# Altium schematic symbol library LXB750VB_P1其他元件库.SCHLIB: 33 symbols
Pins are listed as number, name and electrical type; pins without a type are passive.

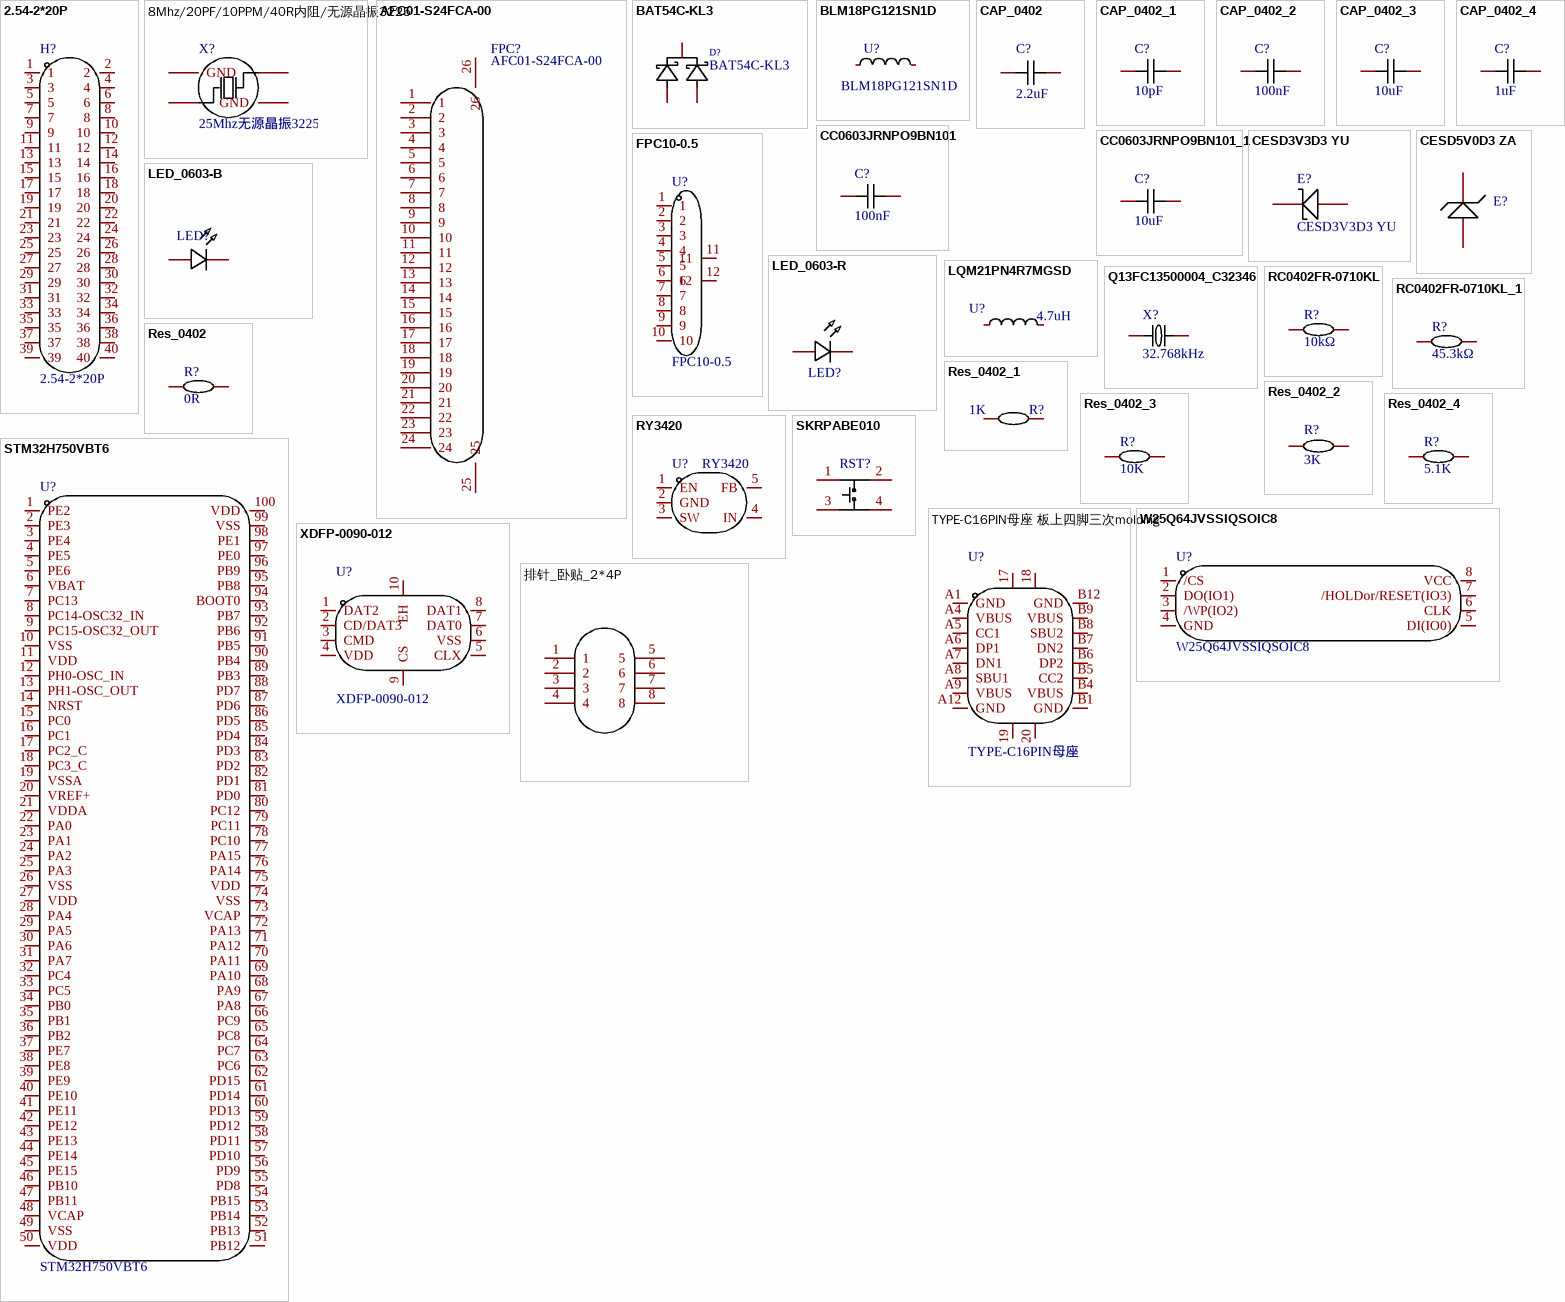
[diagram p0: symbols 2.54-2*20P to 排针_卧贴_2*4P]

## 2.54-2*20P
designator H?
Manufacturer: BOOMELE(博穆精密); Add into BOM: yes; Symbol: 2.54-2*20P; Device: 2.54-2*20P; Supplier: LCSC; Supplier Part: C5124634; Manufacturer Part: 2.54-2*20P; JLCPCB Part Class: 扩展库; Convert to PCB: yes; LCSC Part Name: 2.54-2*20P; Supplier Footprint: 插件,P=2.54mm; Datasheet: https://atta.szlcsc.com/upload/public/pdf/source/20221227/C943B6E3BC1E1384B123D6A43A7CD369.pdf; Name: 2.54-2*20P
footprint HDR-TH_40P-P2.54-V-F-R2-C20-S2.54-2
pins: 1, 2, 3, 4, 5, 6, 7, 8, 9, 10, 11, 12, 13, 14, 15, 16, 17, 18, 19, 20, 21, 22, 23, 24, 25, 26, 27, 28, 29, 30, 31, 32, 33, 34, 35, 36, 37, 38, 39, 40

## 8Mhz/20PF/10PPM/40R内阻/无源晶振3225
designator X?, comment 25Mhz无源晶振3225
Symbol: 8MHZ/20PF/10PPM/40R内阻/无源晶振3225; Add into BOM: yes; Device: 8Mhz/20PF/10PPM/40R内阻/无源晶振3225; LCSC Part Name: 8Mhz/20PF/10PPM/40R内阻/无源晶振3225; Supplier Part: C9900023313; Manufacturer Part: 25Mhz无源晶振3225; Supplier Footprint: CRYSTAL-SMD_4P-L3.2-W2.5; Supplier: LCSC; Convert to PCB: yes; Name: 25Mhz无源晶振3225
footprint CRYSTAL-SMD_4P-L3.2-W2.5-BL
3D model OSC-SMD_4P-L3.2-W2.5-H1.0
pins: 1 OSC1, 2 GND, 3 OSC2, 4 GND

## AFC01-S24FCA-00
designator FPC?
锁定特性:翻盖式;触点类型:下接;触点数量:24P;间距:0.5mm;安装类型:卧贴;; Manufacturer: JS(钜硕电子); Add into BOM: yes; Locking Feature: 翻盖式; Number of Contacts: 24P; Pitch: 0.5mm; FFC, FCB Thickness: 0.3mm; Name: AFC01-S24FCA-00; Symbol: AFC01-S24FCA-00; Device: AFC01-S24FCA-00; Supplier: LCSC; Supplier Part: C262669; Manufacturer Part: AFC01-S24FCA-00; JLCPCB Part Class: 扩展库; LCSC Part Name: 间距:0.5mm P数:24P 翻盖式 下接; Supplier Footprint: SMD,P=0.5mm,卧贴; Datasheet: https://atta.szlcsc.com/upload/public/pdf/source/20190816/C413942_2A72D1AC756EAE17EEDF756A339D4500.pdf; Convert to PCB: yes; Contact Type: 下接; Mounting Type: 卧贴; Height Above Board: 2mm
footprint FPC-SMD_P0.50-24P_FGS-XJ-H2.0
3D model FPC-SMD_P0.50-WS-24P
pins: 1, 2, 3, 4, 5, 6, 7, 8, 9, 10, 11, 12, 13, 14, 15, 16, 17, 18, 19, 20, 21, 22, 23, 24, 25, 26

## BAT54C-KL3
designator D?
二极管配置:1对共阴极;正向压降(Vf):1V@100mA;直流反向耐压(Vr):30V;平均整流电流(Io):200mA;; Manufacturer: ZRE(治润); Add into BOM: yes; Diode Configuration: 1对共阴极; Reverse Voltage (Vr): 30V; Average Rectified Current (Io): 200mA; Reverse Leakage Current (Ir): 2uA@25V; Symbol: BAT54C-KL3; Device: BAT54C-KL3; Supplier: LCSC; Supplier Part: C779698; Manufacturer Part: BAT54C-KL3; JLCPCB Part Class: 扩展库; LCSC Part Name: 电压:30V 电流:200mA; Supplier Footprint: SOT-23; Datasheet: https://atta.szlcsc.com/upload/public/pdf/source/20201013/C779697_FADF87324DB075BDE4E981624DEB8F45.pdf; Convert to PCB: yes; Forward Voltage (Vf@If): 1V@100mA; Name: BAT54C-KL3
footprint SOT-23-3_L2.9-W1.3-P1.90-LS2.4-BR
3D model SOT-23-3P_L2.9-W1.3-H1.0-LS2.4-P0.95
pins: 1 A, 2 A, 3 K

## BLM18PG121SN1D
designator U?
标称阻抗@测试频率:120Ω@100MHz;误差:±25%;直流电阻(RDC):50mΩ;; Manufacturer: muRata(村田); Symbol: BLM18PG121SN1D_C14709; Add into BOM: yes; Tolerance: ±25%; DC Resistance: 50mΩ; Current Rating: 2A; Circuits: 1; Device: BLM18PG121SN1D; LCSC Part Name: 单路 0603磁珠 阻抗120Ω@100MHz; Supplier Part: C14709; Manufacturer Part: BLM18PG121SN1D; Supplier Footprint: 0603; JLCPCB Part Class: 扩展库; Datasheet: https://atta.szlcsc.com/upload/public/pdf/source/20130704/1457706621422.pdf; Supplier: LCSC; Convert to PCB: yes; Impedance @ Frequency: 120Ω@100MHz; Name: BLM18PG121SN1D
footprint L0603
3D model L0603_L1.6-W0.8-H0.5_BEAD
pins: 1, 2

## CAP_0402
designator C?, comment 2.2uF
Symbol: CapAcitance; Device: CAP_0402; Convert to PCB: yes; Add into BOM: yes; Supplier Footprint: 0402; Value: 2.2uF; Name: 2.2uF
footprint R0402
3D model C0402_L1.0-W0.5-H0.5
pins: 1, 2

## CAP_0402_1
designator C?, comment 10pF
Symbol: CapAcitance; Device: CAP_0402; Convert to PCB: yes; Add into BOM: yes; Supplier Footprint: 0402; Value: 10pF; Name: 10pF
footprint R0402
3D model C0402_L1.0-W0.5-H0.5
pins: 1, 2

## CAP_0402_2
designator C?, comment 100nF
Symbol: CapAcitance; Device: CAP_0402; Convert to PCB: yes; Add into BOM: yes; Supplier Footprint: 0402; Value: 100nF; Name: 100nF
footprint R0402
3D model C0402_L1.0-W0.5-H0.5
pins: 1, 2

## CAP_0402_3
designator C?, comment 10uF
Symbol: CapAcitance; Device: CAP_0402; Convert to PCB: yes; Add into BOM: yes; Supplier Footprint: 0402; Value: 10uF; Name: 10uF
footprint R0402
3D model C0402_L1.0-W0.5-H0.5
pins: 1, 2

## CAP_0402_4
designator C?, comment 1uF
Symbol: CapAcitance; Device: CAP_0402; Convert to PCB: yes; Name: 1uF; Add into BOM: yes; Supplier Footprint: 0402; Value: 1uF
footprint R0402
3D model C0402_L1.0-W0.5-H0.5
pins: 1, 2

## CC0603JRNPO9BN101
designator C?, comment 100nF
容值:100pF;精度:±5%;额定电压:50V;材质(温度系数):NP0;; Manufacturer: YAGEO(国巨); Symbol: CC0603JRNPO9BN101; Add into BOM: yes; Tolerance: ±5%; Voltage Rated: 50V; Temperature Coefficient: NP0; Device: CC0603JRNPO9BN101; Supplier: LCSC; Manufacturer Part: CC0603JRNPO9BN101; Value: 100nF; Supplier Part: C14665; JLCPCB Part Class: 扩展库; LCSC Part Name: 100pF ±5% 50V; Supplier Footprint: 0603; Datasheet: https://atta.szlcsc.com/upload/public/pdf/source/20181008/C309499_21CC21451B82C39E3D92150FD6B30293.pdf; Convert to PCB: yes; Name: 100nF
footprint R0402
3D model C0603_L1.6-W0.8-H0.8
pins: 1, 2

## CC0603JRNPO9BN101_1
designator C?, comment 10uF
容值:100pF;精度:±5%;额定电压:50V;材质(温度系数):NP0;; Manufacturer: YAGEO(国巨); Symbol: CC0603JRNPO9BN101; Add into BOM: yes; Tolerance: ±5%; Voltage Rated: 50V; Temperature Coefficient: NP0; Name: 10uF; Device: CC0603JRNPO9BN101; Supplier: LCSC; Manufacturer Part: CC0603JRNPO9BN101; Value: 10uF; Supplier Part: C14665; JLCPCB Part Class: 扩展库; LCSC Part Name: 100pF ±5% 50V; Supplier Footprint: 0603; Datasheet: https://atta.szlcsc.com/upload/public/pdf/source/20181008/C309499_21CC21451B82C39E3D92150FD6B30293.pdf; Convert to PCB: yes
footprint R0402
3D model C0603_L1.6-W0.8-H0.8
pins: 1, 2

## CESD3V3D3 YU
designator E?
极性:单向;反向截止电压(Vrwm):3.3V;最大钳位电压:13V;峰值脉冲电流(Ipp)@10/1000us:16A;击穿电压:5V;; Manufacturer: CJ(江苏长电/长晶); Add into BOM: yes; polarity: 单向; Reverse Stand-Off Voltage (Vrwm): 3.3V; Maximum Clamping Voltage: 13V; Peak Pulse Current (Ipp)@10/1000us: 16A; Breakdown Voltage: 5V; Symbol: CESD3V3D3; Device: CESD3V3D3 YU; Supplier: LCSC; Manufacturer Part: CESD3V3D3 YU; Supplier Part: C38388; JLCPCB Part Class: 扩展库; LCSC Part Name: 单向ESD; Supplier Footprint: SOD-323; Datasheet: https://atta.szlcsc.com/upload/public/pdf/source/20150915/1457707371129.pdf; Convert to PCB: yes; Type: ESD; Name: CESD3V3D3 YU
footprint SOD-323_L1.8-W1.3-LS2.5-RD
3D model SOD-323_L1.7-W1.3-H1.1-LS2.5
pins: 1, 2

## CESD5V0D3 ZA
designator E?  (value not drawn)
极性:单向;反向截止电压(Vrwm):5V;最大钳位电压:15.5V;峰值脉冲电流(Ipp)@10/1000us:15A;击穿电压:6.2V;; Manufacturer: CJ(江苏长电/长晶); Add into BOM: yes; polarity: 单向; Reverse Stand-Off Voltage (Vrwm): 5V; Maximum Clamping Voltage: 15.5V; Peak Pulse Current (Ipp)@10/1000us: 15A; Breakdown Voltage: 6.2V; Name: CESD5V0D3 ZA; Symbol: CESD5V0D3 ZA; Device: CESD5V0D3 ZA; Supplier: LCSC; Manufacturer Part: CESD5V0D3 ZA; Supplier Part: C22643; JLCPCB Part Class: 扩展库; LCSC Part Name: 单向ESD; Supplier Footprint: SOD-323; Datasheet: https://atta.szlcsc.com/upload/public/pdf/source/20140301/1457707004115.pdf; Convert to PCB: yes; Type: ESD
footprint SOD-323_L1.8-W1.3-LS2.5-RD
3D model SOD-323_L1.7-W1.3-H1.1-LS2.5
pins: 1, 2

## FPC10-0.5
designator U?
Add into BOM: yes; Symbol: FPC10-0.5; Device: FPC10-0.5; LCSC Part Name: FPC10-0.5; Supplier Part: C9900025035; Manufacturer Part: FPC10-0.5; Supplier Footprint: FPC10-0.5; JLCPCB Part Class: 扩展库; Supplier: LCSC; Convert to PCB: yes; Name: FPC10-0.5
footprint FPC-SMD_P0.5-10P_FGS-XJ-H2.0
3D model FPC-SMD_P0.5-10P_FGS-XJ-H2.0
pins: 1, 2, 3, 4, 5, 6, 7, 8, 9, 10, 11, 12

## LED_0603-B
designator LED?  (value not drawn)
Symbol: LED_B; Convert to PCB: yes; Device: LED_0603-B; Add into BOM: yes; Supplier Footprint: 0603
footprint LED_0603
3D model LED-0603_B
pins: 1 C, 2 A

## LED_0603-R
designator LED?  (value not drawn)
Symbol: LED_R; Convert to PCB: yes; Device: LED_0603-R; Add into BOM: yes; Supplier Footprint: 0603
footprint LED_0603
3D model LED-0603_R
pins: 1 C, 2 A

## LQM21PN4R7MGSD
designator U?, comment 4.7uH
电感值:4.7uH;精度:±20%;额定电流:750mA;饱和电流(Isat):-;直流电阻(DCR):290mΩ;; Manufacturer: muRata(村田); Symbol: LQM21PN4R7MGSD; Add into BOM: yes; Tolerance: ±20%; Rated Current: 750mA; DC Resistance (DCR): 290mΩ; Frequency - Self Resonant: 20MHz; Device: LQM21PN4R7MGSD; Supplier: LCSC; Supplier Part: C703145; Manufacturer Part: LQM21PN4R7MGSD; Value: 4.7uH; JLCPCB Part Class: 扩展库; LCSC Part Name: 4.7uH ±20%; Supplier Footprint: 0805; Datasheet: https://atta.szlcsc.com/upload/public/pdf/source/20191022/C440248_094C93E028FCF0FA66FA57BC1ADCD3EF.pdf; Convert to PCB: yes; Saturation Current (Isat): -; Q @ Freq: -; Ratings: -; Type: 叠层电感; Name: 4.7uH
footprint L0805
3D model R0805_L2.0-W1.3-H0.6
pins: 1, 2

## Q13FC13500004_C32346
designator X?, comment 32.768kHz
晶振类型:贴片晶振;频率:32.768kHz;常温频差:±20ppm;外接负载电容:12.5pF;; Manufacturer: EPSON(爱普生); Manufacturer Part: Q13FC13500004; Symbol: Q13FC1350000400; Device: Q13FC13500004_C32346; Add into BOM: yes; Crystal Type: 贴片晶振; Normal temperature Frequency Tolerance: ±20ppm; External load capacitor: 12.5pF; Equivalent Series Resistance (ESR): 70kΩ; Name: 32.768kHz; LCSC Part Name: 32.768kHz ±20ppm 12.5pF; Supplier Part: C32346; Supplier Footprint: SMD3215-2P; JLCPCB Part Class: 基础库; Datasheet: https://atta.szlcsc.com/upload/public/pdf/source/20240418/0E0FF5F0356BA3753F616001439D1416.pdf; Supplier: LCSC; Convert to PCB: yes; Value: 32.768kHz; Operating Temperature: -40℃~+85℃
footprint FC-135R_L3.2-W1.5
3D model SMD-3215_2P_L3.2-W1.5-H0.8
pins: 1, 2

## RC0402FR-0710KL
designator R?, comment 10kΩ
电阻类型:厚膜电阻;阻值:10kΩ;精度:±1%;功率:62.5mW;最大工作电压:50V;温度系数:±100ppm/℃;; Manufacturer: YAGEO(国巨); Symbol: RC0402FR-0710KL; Add into BOM: yes; Tolerance: ±1%; Power(Watts): 62.5mW; Overload Voltage (Max): 50V; Name: 10kΩ; Device: RC0402FR-0710KL; LCSC Part Name: 厚膜电阻 10kΩ ±1% 62.5mW; Supplier Part: C60490; Manufacturer Part: RC0402FR-0710KL; Supplier Footprint: 0402; JLCPCB Part Class: 扩展库; Datasheet: https://atta.szlcsc.com/upload/public/pdf/source/20170925/C131467_1506321478108990263.pdf; Supplier: LCSC; Convert to PCB: yes; Type: 厚膜电阻; Value: 10kΩ; Temperature Coefficient: ±100ppm/℃; Operating Temperature Range: -55℃~+155℃
footprint R0402
3D model R0402_L1.0-W0.5-H0.5
pins: 1, 2

## RC0402FR-0710KL_1
designator R?, comment 45.3kΩ
电阻类型:厚膜电阻;阻值:10kΩ;精度:±1%;功率:62.5mW;最大工作电压:50V;温度系数:±100ppm/℃;; Manufacturer: YAGEO(国巨); Symbol: RC0402FR-0710KL; Add into BOM: yes; Tolerance: ±1%; Power(Watts): 62.5mW; Overload Voltage (Max): 50V; Name: 45.3kΩ; Device: RC0402FR-0710KL; LCSC Part Name: 厚膜电阻 10kΩ ±1% 62.5mW; Supplier Part: C60490; Manufacturer Part: RC0402FR-0710KL; Supplier Footprint: 0402; JLCPCB Part Class: 扩展库; Datasheet: https://atta.szlcsc.com/upload/public/pdf/source/20170925/C131467_1506321478108990263.pdf; Supplier: LCSC; Convert to PCB: yes; Type: 厚膜电阻; Value: 45.3kΩ; Temperature Coefficient: ±100ppm/℃; Operating Temperature Range: -55℃~+155℃
footprint R0402
3D model R0402_L1.0-W0.5-H0.5
pins: 1, 2

## Res_0402
designator R?, comment 0R
Symbol: 电阻; Device: Res_0402; Convert to PCB: yes; Add into BOM: yes; Supplier Footprint: 0402; Value: 0R; Name: 0R
footprint R0402
3D model R0402_L1.0-W0.5-H0.5
pins: 1, 2

## Res_0402_1
designator R?, comment 1K
Symbol: 电阻; Device: Res_0402; Convert to PCB: yes; Add into BOM: yes; Supplier Footprint: 0402; Value: 1K; Name: 1K
footprint R0402
3D model R0402_L1.0-W0.5-H0.5
pins: 1, 2

## Res_0402_2
designator R?, comment 3K
Symbol: 电阻; Device: Res_0402; Convert to PCB: yes; Add into BOM: yes; Supplier Footprint: 0402; Value: 3K; Name: 3K
footprint R0402
3D model R0402_L1.0-W0.5-H0.5
pins: 1, 2

## Res_0402_3
designator R?, comment 10K
Symbol: 电阻; Device: Res_0402; Convert to PCB: yes; Add into BOM: yes; Supplier Footprint: 0402; Value: 10K; Name: 10K
footprint R0402
3D model R0402_L1.0-W0.5-H0.5
pins: 1, 2

## Res_0402_4
designator R?, comment 5.1K
Symbol: 电阻; Device: Res_0402; Convert to PCB: yes; Add into BOM: yes; Supplier Footprint: 0402; Value: 5.1K; Name: 5.1K
footprint R0402
3D model R0402_L1.0-W0.5-H0.5
pins: 1, 2

## RY3420
designator U?
Manufacturer: RYCHiP(蕊源); Add into BOM: yes; Symbol: RY3420; Device: RY3420; LCSC Part Name: RY3420 Buck, 2.5-5.5V, 2A, 1.2MHz, VFB 0.6V, SOT23-5; Supplier Part: C370754; Manufacturer Part: RY3420; Supplier Footprint: SOT-23-5; JLCPCB Part Class: 扩展库; Datasheet: https://atta.szlcsc.com/upload/public/pdf/source/20190329/C370754_4D00FEBF6451586654F2657297312063.pdf; Supplier: LCSC; Convert to PCB: yes; Name: RY3420
footprint SOT-23-5_L2.9-W1.6-P0.95-LS2.8-BL
3D model SOT-23-5_L2.9-W1.6-P0.95-LS2.8-BL
pins: 1 EN, 2 GND, 3 SW, 4 IN, 5 FB

## SKRPABE010
designator RST?  (value not drawn)
触点电流:50mA;额定电压(DC):16V;电路结构:单刀单掷;安装方式:立贴;带灯:-;机械寿命:-;; Manufacturer: ALPSALPINE(阿尔卑斯阿尔派); Add into BOM: yes; Contact Current: 50mA; Voltage Rating (DC): 16V; Circuit: 单刀单掷; Actuator Style: 椭圆形按钮; Switch Length: 4.2mm; Switch Width: 3.2mm; Switch Height: 2.5mm; Name: SKRPABE010; Symbol: SKRPABE010; Device: SKRPABE010; LCSC Part Name: 4.2*3.2*2.5mm 立贴 轻触开关; Supplier Part: C115360; Manufacturer Part: SKRPABE010; Supplier Footprint: SMD; Datasheet: https://atta.szlcsc.com/upload/public/pdf/source/20230112/DF75D5D18E1B5268218CBB1743AEACBB.pdf; Supplier: LCSC; Convert to PCB: yes; Mounting Style: 立贴; With Lamp: -; Mechanical Life: -
footprint KEY-SMD_4P-L4.2-W3.2-P2.20-LS4.6
3D model KEY-SMD_4P-L4.2-W3.2-H2.5-LS4.6-P2.2
pins: 1, 2, 3, 4

## STM32H750VBT6
designator U?
CPU内核:ARM-M系列;程序存储容量:128KB;RAM总容量:1MB;GPIO端口数量:82;工作电压范围:1.62V~3.6V;CPU最大主频:480MHz;程序存储器类型:FLASH;; Manufacturer: ST(意法半导体); Add into BOM: yes; Program Storage Size: 128KB; RAM Size: 1MB; GPIO Ports Number: 82; CPU Maximum Speed: 480MHz; Program Memory Type: FLASH; ADC (Bit): 16bit; DAC (Bit): 12bit; Universal Serial Bus: 有; Peripheral/Function: DMA；LCD/LED驱动; Symbol: STM32H750VBT6; Device: STM32H750VBT6; LCSC Part Name: STM32H750VBT6; Supplier Part: C404010; Manufacturer Part: STM32H750VBT6; Supplier Footprint: LQFP-100(14x14); JLCPCB Part Class: 扩展库; Datasheet: https://atta.szlcsc.com/upload/public/pdf/source/20231008/912982D4F3BD3DF1AA7D0A7EE6EF5B6B.pdf; Supplier: LCSC; Convert to PCB: yes; CPU Core: ARM-M系列; Operating Voltage Range: 1.62V~3.6V; Operating Temperature Range: -40℃~+85℃; PWM (Bit): -; Internal Comparator: -; communication protocol: -; Watchdog: 有; Real-Time Clock: -; Infrared Data Association: 有; Low-Voltage Detect: 有; CCP Capture/Compare: -; LCD Module: 有; Secure Digital Input and Output: 有; Direct Memory Access: 有; Internal Oscillator: 有; Name: STM32H750VBT6
footprint LQFP-100_L14.0-W14.0-P0.50-LS16.0-BL
3D model LQFP-100_L14.0-W14.0-H1.4-LS16.0-P0.50
pins: 1 PE2, 2 PE3, 3 PE4, 4 PE5, 5 PE6, 6 VBAT, 7 PC13, 8 PC14-OSC32_IN, 9 PC15-OSC32_OUT, 10 VSS, 11 VDD, 12 PH0-OSC_IN, 13 PH1-OSC_OUT, 14 NRST, 15 PC0, 16 PC1, 17 PC2_C, 18 PC3_C, 19 VSSA, 20 VREF+, 21 VDDA, 22 PA0, 23 PA1, 24 PA2, 25 PA3, 26 VSS, 27 VDD, 28 PA4, 29 PA5, 30 PA6, 31 PA7, 32 PC4, 33 PC5, 34 PB0, 35 PB1, 36 PB2, 37 PE7, 38 PE8, 39 PE9, 40 PE10, 41 PE11, 42 PE12, 43 PE13, 44 PE14, 45 PE15, 46 PB10, 47 PB11, 48 VCAP, 49 VSS, 50 VDD, 51 PB12, 52 PB13, 53 PB14, 54 PB15, 55 PD8, 56 PD9, 57 PD10, 58 PD11, 59 PD12, 60 PD13, 61 PD14, 62 PD15, 63 PC6, 64 PC7, 65 PC8, 66 PC9, 67 PA8, 68 PA9, 69 PA10, 70 PA11, 71 PA12, 72 PA13, 73 VCAP, 74 VSS, 75 VDD, 76 PA14, 77 PA15, 78 PC10, 79 PC11, 80 PC12, 81 PD0, 82 PD1, 83 PD2, 84 PD3, 85 PD4, 86 PD5, 87 PD6, 88 PD7, 89 PB3, 90 PB4, 91 PB5, 92 PB6, 93 PB7, 94 BOOT0, 95 PB8, 96 PB9, 97 PE0, 98 PE1, 99 VSS, 100 VDD

## TYPE-C16PIN母座 板上四脚三次molding
designator U?, comment TYPE-C16PIN母座
Symbol: TYPE-C16PIN母座 板上四脚三次MOLDING; Add into BOM: yes; Name: TYPE-C16PIN母座; Device: TYPE-C16PIN母座 板上四脚三次molding; LCSC Part Name: TYPE-C16PIN母座 板上四脚三次molding; Supplier Part: C9900000202; Manufacturer Part: TYPE-C16PIN母座; Supplier Footprint: TYPE-C16PIN; JLCPCB Part Class: 扩展库; Supplier: LCSC; Convert to PCB: yes
footprint USB-SMD_TYPE-C16PIN
3D model USB-SMD_TYPE-C16PIN-1
pins: 17, 18, 19, 20, A1 GND, A4 VBUS, A5 CC1, A6 DP1, A7 DN1, A8 SBU1, A9 VBUS, A12 GND, B1 GND, B4 VBUS, B5 CC2, B6 DP2, B7 DN2, B8 SBU2, B9 VBUS, B12 GND

## W25Q64JVSSIQSOIC8
designator U?
Add into BOM: yes; Symbol: W25Q64JVSSIQSOIC8; Device: W25Q64JVSSIQSOIC8; LCSC Part Name: W25Q64JVSSIQSOIC8; Supplier Part: C9900009206; Manufacturer Part: W25Q64JVSSIQSOIC8; Supplier Footprint: SOIC-8-208mil; JLCPCB Part Class: 扩展库; Supplier: LCSC; Convert to PCB: yes; Name: W25Q64JVSSIQSOIC8
footprint SOIC-8_L5.3-W5.3-P1.27-LS7.9-BL
3D model SOIC-8_L5.3-W5.3-P1.27-LS7.9-BL
pins: 1 /CS, 2 DO(IO1), 3 /WP(IO2), 4 GND, 5 DI(IO0), 6 CLK, 7 /HOLDor/RESET(IO3), 8 VCC

## XDFP-0090-012
designator U?
卡连接方式:自弹式;本体最大高度:1.85mm;触头镀层:金;; Manufacturer: LX(连欣科技); Add into BOM: yes; Card Connection Mode: 自弹式; Body Height (Max): 1.85mm; Symbol: XDFP-0090-012; Device: XDFP-0090-012; LCSC Part Name: 自弹式外焊 Micro SD卡座/TF卡座9PIN; Supplier Part: C7498122; Manufacturer Part: XDFP-0090-012; Supplier Footprint: SMD; JLCPCB Part Class: 扩展库; Datasheet: https://atta.szlcsc.com/upload/public/pdf/source/20230919/3284334F72F9F9D639C35504FE7D1962.pdf; Supplier: LCSC; Convert to PCB: yes; Contact Plating: 金; Name: XDFP-0090-012
footprint SIM-SMD_LX_XDFP-0090-012
3D model SIM-SMD_LX_XDFP-0090-012
pins: 1 DAT2, 2 CD/DAT3, 3 CMD, 4 VDD, 5 CLX, 6 VSS, 7 DAT0, 8 DAT1, 9 CS, 10 EH

## 排针_卧贴_2*4P
designator H?
Add into BOM: yes; Symbol: 排针_卧贴_2*4P; Device: 排针_卧贴_2*4P; Convert to PCB: yes; Name: 排针_卧贴_2*4P
footprint 侧贴排针
3D model HDR2.54-M-LI-2x4P
pins: 1, 2, 3, 4, 5, 6, 7, 8